# Altium footprint library base-32-bit.PcbLib: 31 footprints (part 1 of 2)
Each footprint in its own frame and in the unit in brackets; x right, y up, seen from the top. Pads: shape width x height; smd on the part's side, far side on the other; paste and mask are expansions set on the pad; w line width, h text height; cw(c..) or ccw(c..) is an arc to the next point about the centre after c.
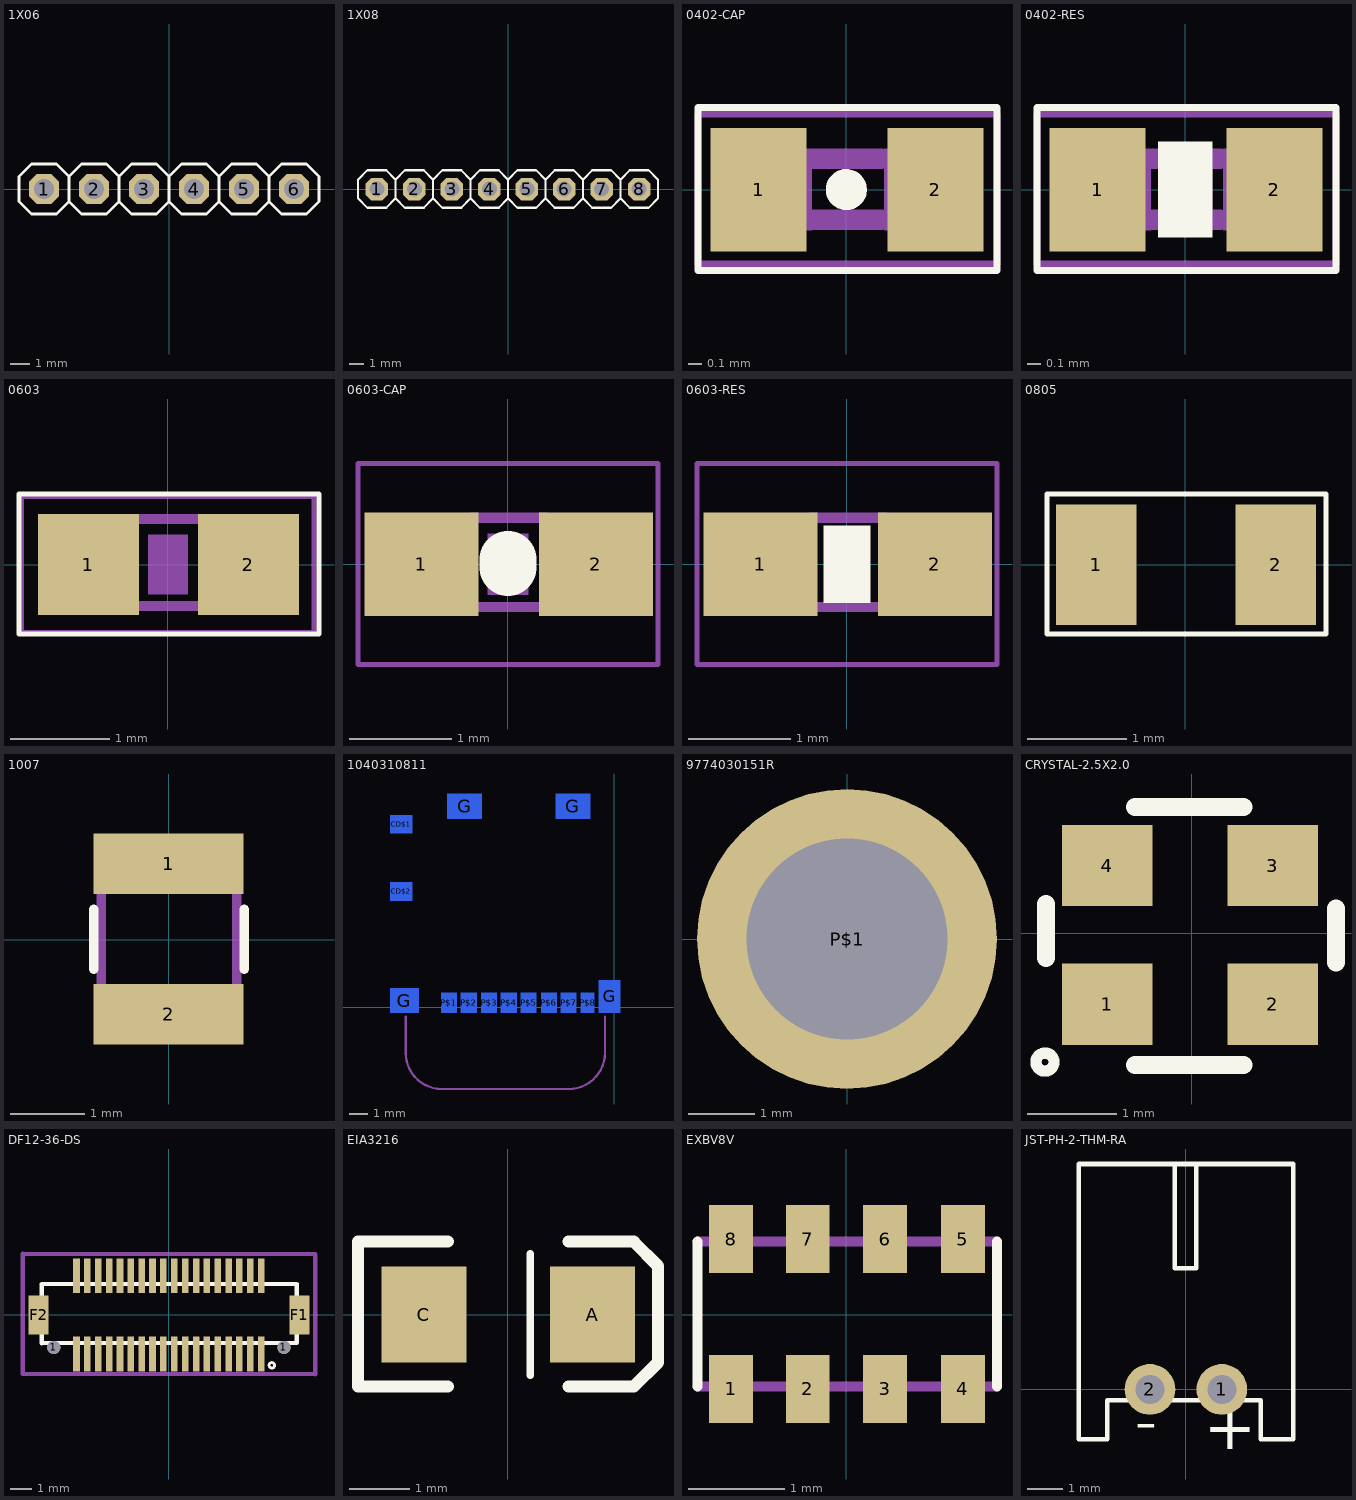
[diagram p0: the footprints below, top view; thin cyan lines are the x and y axes]

## 1X06 [mil] "1X06"
pads (6):
  oct 60x60 hole 40: 1(-250,0) 2(-150,0) 3(-50,0) 4(50,0) 5(150,0) 6(250,0)
Top Overlay:
  lines w6: -200,-25 -200,25 ; -200,-25 -225,-50 -275,-50 -300,-25 -300,25 -275,50 -225,50 -200,25 ; -200,-25 -175,-50 -125,-50 -100,-25 ; -200,25 -175,50 -125,50 -100,25 ; -100,-25 -75,-50 -25,-50 0,-25 ; -100,-25 -100,25 ; -100,25 -75,50 -25,50 0,25 ; 0,-25 0,25 ; 0,-25 25,-50 75,-50 100,-25 ; 0,25 25,50 75,50 100,25 ; 100,-25 100,25 ; 100,-25 125,-50 175,-50 200,-25 ; 100,25 125,50 175,50 200,25 ; 200,-25 200,25 ; 200,-25 225,-50 275,-50 300,-25 300,25 275,50 225,50 200,25
Mechanical 16:
  rectangle: 140,-10 160,10
  rectangle: 40,-10 60,10
  rectangle: -60,-10 -40,10
  rectangle: -160,-10 -140,10
  rectangle: -260,-10 -240,10
  rectangle: 240,-10 260,10

## 1X08 [mil] "1X08"
pads (8):
  oct 60x60 hole 40: 1(-350,0) 2(-250,0) 3(-150,0) 4(-50,0) 5(50,0) 6(150,0) 7(250,0) 8(350,0)
Top Overlay:
  lines w6: -300,-25 -300,25 ; -300,-25 -325,-50 -375,-50 -400,-25 -400,25 -375,50 -325,50 -300,25 ; -300,-25 -275,-50 -225,-50 -200,-25 ; -300,25 -275,50 -225,50 -200,25 ; -200,-25 -175,-50 -125,-50 -100,-25 ; -200,-25 -200,25 ; -200,25 -175,50 -125,50 -100,25 ; -100,-25 -100,25 ; -100,-25 -75,-50 -25,-50 0,-25 ; -100,25 -75,50 -25,50 0,25 ; 0,-25 0,25 ; 0,-25 25,-50 75,-50 100,-25 ; 0,25 25,50 75,50 100,25 ; 100,-25 125,-50 175,-50 200,-25 ; 100,-25 100,25 ; 100,25 125,50 175,50 200,25 ; 200,-25 200,25 ; 200,-25 225,-50 275,-50 300,-25 ; 200,25 225,50 275,50 300,25 ; 300,-25 300,25 ; 300,-25 325,-50 375,-50 400,-25 400,25 375,50 325,50 300,25
Mechanical 16:
  rectangle: 240,-10 260,10
  rectangle: 140,-10 160,10
  rectangle: 40,-10 60,10
  rectangle: -60,-10 -40,10
  rectangle: -160,-10 -140,10
  rectangle: -260,-10 -240,10
  rectangle: -360,-10 -340,10
  rectangle: 340,-10 360,10

## 0402-CAP [mil] "0402-CAP"
pads (2):
  rect 28x36 smd: 1(-25.59,0) 2(26,0)
Top Overlay:
  circle w6: c0,0 r3
  lines w2: -43.31,-23.62 44,-23.62 44,24 -43.31,24 -43.31,-23.62
Mechanical 16:
  rectangle: -21.81,-12 -10,12
  rectangle: 11,-12 22,12
  lines w2: -43.31,-21.65 44,-21.65 44,22 -43.31,22 -43.31,-21.65
  lines w6: -9.65,-8.82 10,-8.82 ; -9.65,9 10,9

## 0402-RES [mil] "0402-RES"
pads (2):
  rect 28x36 smd: 1(-25.59,0) 2(26,0)
Top Overlay:
  rectangle: -8,-14 8,14
  lines w2: -43.31,-23.62 -43.31,24 44,24 44,-23.62 -43.31,-23.62
Mechanical 6:
  rectangle: -7.87,-11.81 8,12
Mechanical 16:
  rectangle: 11,-12 22,12
  rectangle: -21.81,-12 -10,12
  lines w2: -43.31,-21.65 -43.31,22 44,22 44,-21.65 -43.31,-21.65
  lines w6: -9.65,-8.82 10,-8.82 ; -9.65,9 10,9

## 0603 [mil] "0603"
pads (2):
  rect 40x40 smd: 1(-31.5,0) 2(32,0)
Top Overlay:
  lines w2: -59.06,-27.56 -59.06,28 60,28 60,-27.56 -59.06,-27.56
Mechanical 6:
  rectangle: -7.87,-11.81 8,12
Mechanical 16:
  rectangle: 13,-18.5 33,19
  rectangle: -33,-18.5 -13.31,19
  lines w2: -57.99,-26.89 -57.99,27 58,27 58,-26.89 -57.99,-26.89
  lines w4: -14.02,-16.5 15,-16.5 ; -14.02,18 15,18

## 0603-CAP [mil] "0603-CAP"
pads (2):
  rect 44x40 smd: 1(-33.46,0) 2(34,0)
Top Overlay:
  lines w22: 0,-1.2 0,2
Mechanical 6:
  rectangle: -7.87,-11.81 8,12
Mechanical 16:
  rectangle: 13,-18.5 33,19
  rectangle: -33,-18.5 -13.31,19
  lines w2: -57.99,-38.7 -57.99,39 58,39 58,-38.7 -57.99,-38.7
  lines w4: -14.02,-16.5 15,-16.5 ; -14.02,18 15,18

## 0603-RES [mil] "0603-RES"
pads (2):
  rect 44x40 smd: 1(-33.46,0) 2(34,0)
Top Overlay:
  rectangle: -9,-15 9,15
Mechanical 6:
  rectangle: -7.87,-11.81 8,12
Mechanical 16:
  rectangle: -33,-18.5 -13.31,19
  rectangle: 13,-18.5 33,19
  lines w2: -57.99,-38.7 58,-38.7 58,39 -57.99,39 -57.99,-38.7
  lines w4: -14.02,-16.5 15,-16.5 ; -14.02,18 15,18

## 0805 [mil] "0805"
pads (2):
  rect 32x48 smd: 1(-35.43,0) 2(36,0)
Top Overlay:
  lines w2: -55.12,-27.56 -55.12,28 56,28 56,-27.56 -55.12,-27.56

## 1007 [mil] "1007"
pads (2):
  rect 79x32 smd: 1(0,40) 2(0,-39.37)
Top Overlay:
  lines w5: -39.37,-15.75 -39.37,16 ; 40,-15.75 40,16
Mechanical 16:
  lines w5: -35.43,-49.21 36,-49.21 36,50 -35.43,50 -35.43,-49.21

## 1040310811 [mil] "1040310811"
pads (14):
  rect 48x40 smd far side: CD$1(-463,398) CD$2(-463,252)
  rect 62x54 smd far side: G(-456,15)
  rect 75x54 smd far side: G(-325,437) G(-90,437)
  rect 47x71 smd far side: G(-10,24)
  rect 34x44 smd far side: P$1(-359,10) P$2(-316,10) P$3(-272,10) P$4(-229,10) P$5(-186,10) P$6(-142,10) P$7(-99,10)
  rect 30x44 smd far side: P$8(-58,10)
Bottom Overlay:
  lines w5: -473,0 0,0 0,449 -473,449 -473,0
Mechanical 14:
  lines w5: -453,-19.68 -453,-98.43 ccw(c-374.63,-98.8) -375,-177.17 -99,-177.17 ccw(c-98.87,-98.3) -20,-98.43 -20,-19.68

## 9774030151R [mil] "9774030151R"
pads (1):
  round 178 hole 119: P$1(0,0)

## CRYSTAL-2.5X2.0 [mil] "CRYSTAL-2.5X2.0"
pads (4):
  rect 40x36 smd: 1(-37.4,-31.5) 2(36,-31.5) 3(36,30) 4(-37.4,30)
Top Overlay:
  circle w5: c-64.96,-57.09 r4
  lines w8: -64.49,-11.06 -64.49,13 ; -25.12,-58.31 23,-58.31 ; -25.12,56 23,56 ; 64,-13.03 64,11

## DF12-36-DS [mil] "DF12-36-DS"
pads (40):
  round 24 hole 24: 1(-208.66,-59.06) 1(209,-59.06)
  rect 12x63 smd: 1(168,-70.87) 2(168,71) 3(148,-70.87) 4(148,71) 5(128,-70.87) 6(128,71) 7(109,-70.87) 8(109,71) 9(89,-70.87) 10(89,71) 11(69,-70.87) 12(69,71) 13(50,-70.87) 14(50,71) 15(30,-70.87) 16(30,71) 17(10,-70.87) 18(10,71) 19(-9.84,-70.87) 20(-9.84,71) 21(-29.53,-70.87) 22(-29.53,71) 23(-49.21,-70.87) 24(-49.21,71) 25(-68.9,-70.87) 26(-68.9,71) 27(-88.58,-70.87) 28(-88.58,71) 29(-108.27,-70.87) 30(-108.27,71) 31(-127.95,-70.87) 32(-127.95,71) 33(-147.64,-70.87) 34(-147.64,71) 35(-167.32,-70.87) 36(-167.32,71)
  rect 36x71 smd: F1(237,0) F2(-236.22,0)
Top Overlay:
  circle w5: c187,-91.5 r5
  lines w8: -230.27,-51.07 -230.27,56 232,56 232,-50.57 -230.27,-51.07
Top Paste:
  region: -143.22,-47.5 -151.88,-47.5 -151.88,-98.69 -143.22,-98.69
  region: -162.91,99 -171.57,99 -171.57,48 -162.91,48
  region: -143.22,99 -151.88,99 -151.88,48 -143.22,48
  region: -162.91,-47.5 -171.57,-47.5 -171.57,-98.69 -162.91,-98.69
  region: -103.85,-47.5 -112.51,-47.5 -112.51,-98.69 -103.85,-98.69
  region: -84.17,-47.5 -92.83,-47.5 -92.83,-98.69 -84.17,-98.69
  region: -64.48,-47.5 -73.14,-47.5 -73.14,-98.69 -64.48,-98.69
  region: -44.8,-47.5 -53.46,-47.5 -53.46,-98.69 -44.8,-98.69
  region: -25.11,-47.5 -33.77,-47.5 -33.77,-98.69 -25.11,-98.69
  region: -5.43,-47.5 -14.09,-47.5 -14.09,-98.69 -5.43,-98.69
  region: 15,-47.5 6,-47.5 6,-98.69 15,-98.69
  region: 34,-47.5 26,-47.5 26,-98.69 34,-98.69
  region: 54,-47.5 45,-47.5 45,-98.69 54,-98.69
  region: 74,-47.5 65,-47.5 65,-98.69 74,-98.69
  region: 93,-47.5 85,-47.5 85,-98.69 93,-98.69
  region: 113,-47.5 105,-47.5 105,-98.69 113,-98.69
  region: 133,-47.5 124,-47.5 124,-98.69 133,-98.69
  region: 153,-47.5 144,-47.5 144,-98.69 153,-98.69
  region: 172,-47.5 164,-47.5 164,-98.69 172,-98.69
  region: -123.54,99 -132.2,99 -132.2,48 -123.54,48
  region: -103.85,99 -112.51,99 -112.51,48 -103.85,48
  region: -84.17,99 -92.83,99 -92.83,48 -84.17,48
  region: -64.48,99 -73.14,99 -73.14,48 -64.48,48
  region: -44.8,99 -53.46,99 -53.46,48 -44.8,48
  region: -25.11,99 -33.77,99 -33.77,48 -25.11,48
  region: -5.82,99 -14.48,99 -14.48,48 -5.82,48
  region: 15,99 6,99 6,48 15,48
  region: 34,99 26,99 26,48 34,48
  region: 54,99 45,99 45,48 54,48
  region: 73,99 65,99 65,48 73,48
  region: 93,99 85,99 85,48 93,48
  region: 113,99 105,99 105,48 113,48
  region: 133,99 124,99 124,48 133,48
  region: 153,99 144,99 144,48 153,48
  region: 172,99 164,99 164,48 172,48
  region: -123.54,-47.5 -132.2,-47.5 -132.2,-98.69 -123.54,-98.69
Top Solder:
  region: -178.69,-59 -178.68,-57.03 -179.46,-51.16 -182.48,-43.87 -187.29,-37.6 -193.55,-32.79 -200.85,-29.77 -206.72,-29 -208.69,-29 -210.65,-29 -216.52,-29.77 -223.82,-32.79 -230.08,-37.6 -234.89,-43.87 -237.91,-51.16 -238.69,-57.03 -238.69,-59 -238.69,-60.97 -237.91,-66.83 -234.89,-74.13 -230.08,-80.4 -223.82,-85.21 -216.52,-88.23 -210.65,-89 -208.69,-89 -206.72,-89 -200.85,-88.23 -193.55,-85.21 -187.29,-80.4 -182.48,-74.13 -179.46,-66.83 -178.68,-60.97
  region: 239,-59 239,-57.03 238.23,-51.16 235.21,-43.87 230.4,-37.6 224.13,-32.79 216.84,-29.77 210.97,-29 209,-29 207.03,-29 201.16,-29.77 193.87,-32.79 187.6,-37.6 182.79,-43.87 179.77,-51.16 179,-57.03 179,-59 179,-60.97 179.77,-66.83 182.79,-74.13 187.6,-80.4 193.87,-85.21 201.16,-88.23 207.03,-89 209,-89 210.97,-89 216.84,-88.23 224.13,-85.21 230.4,-80.4 235.21,-74.13 238.23,-66.83 239,-60.97
Mechanical 16:
  region: -171.52,99 -171.52,49 -163.52,49 -163.52,99
  region: -151.82,99 -151.82,49 -143.82,49 -143.82,99
  region: -171.42,-43.5 -171.42,-93.5 -163.42,-93.5 -163.42,-43.5
  region: -151.72,-43.4 -151.72,-93.4 -143.72,-93.4 -143.72,-43.4
  region: 164,99 164,49 172,49 172,99
  region: 144,99 144,49 152,49 152,99
  region: 124,99 124,49 132,49 132,99
  region: 105,99 105,49 113,49 113,99
  region: 85,99 85,49 93,49 93,99
  region: 65,99 65,49 73,49 73,99
  region: -132.15,99 -132.15,49 -124.15,49 -124.15,99
  region: -112.45,99 -112.45,49 -104.45,49 -104.45,99
  region: -92.75,99 -92.75,49 -84.75,49 -84.75,99
  region: -73.06,99 -73.06,49 -65.06,49 -65.06,99
  region: -53.25,99 -53.25,49 -45.25,49 -45.25,99
  region: -33.55,99 -33.55,49 -25.55,49 -25.55,99
  region: -13.48,99.48 -13.48,48.52 -5.48,48.52 -5.48,99.48
  region: 5.92,99.08 5.92,48.92 13.92,48.92 13.92,99.08
  region: 26,99 26,49 34,49 34,99
  region: 164,-44.1 164,-94.1 172,-94.1 172,-44.1
  region: 144,-44.1 144,-94.1 152,-94.1 152,-44.1
  region: 124,-44 124,-94 132,-94 132,-44
  region: 105,-44.1 105,-94.1 113,-94.1 113,-44.1
  region: 85,-44.1 85,-94.1 93,-94.1 93,-44.1
  region: 65,-44.1 65,-94.1 73,-94.1 73,-44.1
  region: -132.05,-43.5 -132.05,-93.5 -124.05,-93.5 -124.05,-43.5
  region: -112.35,-43.4 -112.35,-93.4 -104.35,-93.4 -104.35,-43.4
  region: -92.55,-43.6 -92.55,-93.6 -84.55,-93.6 -84.55,-43.6
  region: -72.95,-43.5 -72.95,-93.5 -64.95,-93.5 -64.95,-43.5
  region: -53.25,-43.5 -53.25,-93.5 -45.25,-93.5 -45.25,-43.5
  region: -33.45,-43.5 -33.45,-93.5 -25.45,-93.5 -25.45,-43.5
  region: -13.43,-43.37 -13.43,-94.23 -5.43,-94.23 -5.43,-43.37
  region: 5.92,-43.62 5.92,-93.77 13.92,-93.77 13.92,-43.62
  region: 46,-44.1 46,-94.1 54,-94.1 54,-44.1
  region: 46,99 46,49 54,49 54,99
  region: 26,-44 26,-94 34,-94 34,-44
  lines w8: -265.04,-107.19 266,-107.69 266,110 -265.04,111 -265.04,-107.19

## EIA3216 [mil] "EIA3216"
pads (2):
  rect 56x63 smd: A(56,0) C(-55.12,0)
Top Overlay:
  lines w5: 15,-40 15,40
  lines w8: -39.37,-47.24 -98.43,-47.24 -98.43,48 -39.37,48 ; 40,-47.24 83,-47.24 99,-31.5 99,32 83,48 40,48

## EXBV8V [mil] "EXBV8V"
pads (8):
  rect 18x28 smd: 1(-47.24,-30.51) 2(-15.75,-30.51) 3(16,-30.51) 4(48,-30.51) 5(48,31) 6(16,31) 7(-15.75,31) 8(-47.24,31)
Top Overlay:
  lines w4: -61.02,-29.53 -61.02,30 ; 62,-29.53 62,30
Mechanical 16:
  lines w4: -61.02,-29.53 -53.15,-29.53 cw(c-47.24,-29.53) -47.24,-23.62 cw(c-47.24,-29.53) -41.34,-29.53 -21.65,-29.53 cw(c-15.75,-29.53) -15.75,-23.62 cw(c-15.75,-29.53) -9.84,-29.53 10,-29.53 cw(c15.95,-29.57) 16,-23.62 cw(c16.05,-29.57) 22,-29.53 42,-29.53 cw(c47.95,-29.57) 48,-23.62 cw(c48.05,-29.57) 54,-29.53 62,-29.53 ; -61.02,30 -53.15,30 ccw(c-47.2,29.95) -47.24,24 ccw(c-47.29,29.95) -41.34,30 -21.65,30 ccw(c-15.7,29.95) -15.75,24 ccw(c-15.8,29.95) -9.84,30 10,30 ccw(c16,30) 16,24 ccw(c16,30) 22,30 42,30 ccw(c48,30) 48,24 ccw(c48,30) 54,30 62,30

## JST-PH-2-THM-RA [mil] "JST-PH-2-THM-RA"
pads (2):
  round 56 hole 32: 1(40,0) 2(-39.37,0)
Top Overlay:
  lines w5: -11.81,249 -11.81,134 12,134 12,249 ; -118.11,-55.12 -86.61,-55.12 -86.61,-11.81 83,-11.81 83,-55.12 87,-55.12 119,-55.12 119,249 -118.11,249 -118.11,-55.12
  text "-" at -56.26,-74.65 h86.8
  text "+" at 20,-82.52 h86.8